# EAGLE library part ELECTROSHRI_ADS124S08-BOARD (library ADS124S08-Dev-Board)
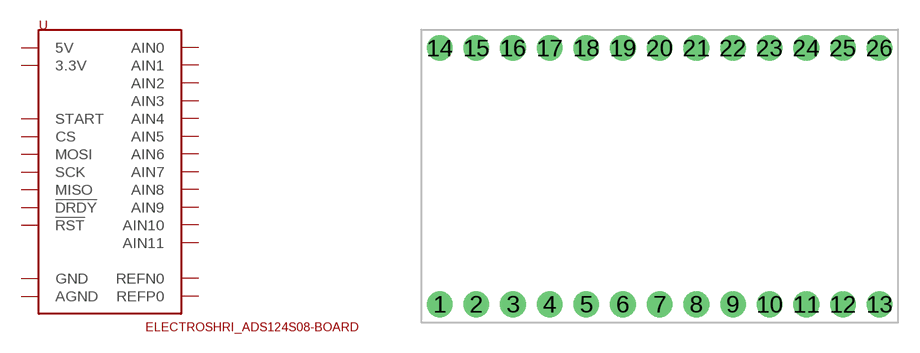
[diagram p0: symbol with the pads of ELECTROSHRI_ADS124S08-BOARD; footprint ELECTROSHRI_ADS124S08-BOARD]

Designator prefix -

## ELECTROSHRI_ADS124S08-BOARD  [ELECTROSHRI_ADS124S08-BOARD]
1  AIN11
2  AIN10
3  AIN9
4  AIN8
5  AIN7
6  AIN6
7  AIN5
8  AIN4
9  AIN3
10  AIN2
11  AIN1
12  AIN0
13  GND
14  5V
15  3.3V
16  !RST
17  !DRDY
18  MISO
19  SCK
20  MOSI
21  CS
22  START
23  REFN0
24  REFP0
25  AGND
26  GND

## Footprint ELECTROSHRI_ADS124S08-BOARD (pad centres in mm)
drill 1.016 pad 1.778: 1 0,0; 2 2.54,0; 3 5.08,0; 4 7.62,0; 5 10.16,0; 6 12.7,0; 7 15.24,0; 8 17.78,0; 9 20.32,0; 10 22.86,0; 11 25.4,0; 12 27.94,0; 13 30.48,0; 14 0,17.78; 15 2.54,17.78; 16 5.08,17.78; 17 7.62,17.78; 18 10.16,17.78; 19 12.7,17.78; 20 15.24,17.78; 21 17.78,17.78; 22 20.32,17.78; 23 22.86,17.78; 24 25.4,17.78; 25 27.94,17.78; 26 30.48,17.78